# Altium integrated library Capacitor - Ceramic - Sumsung.IntLib: 1421 symbols (part 7 of 22)
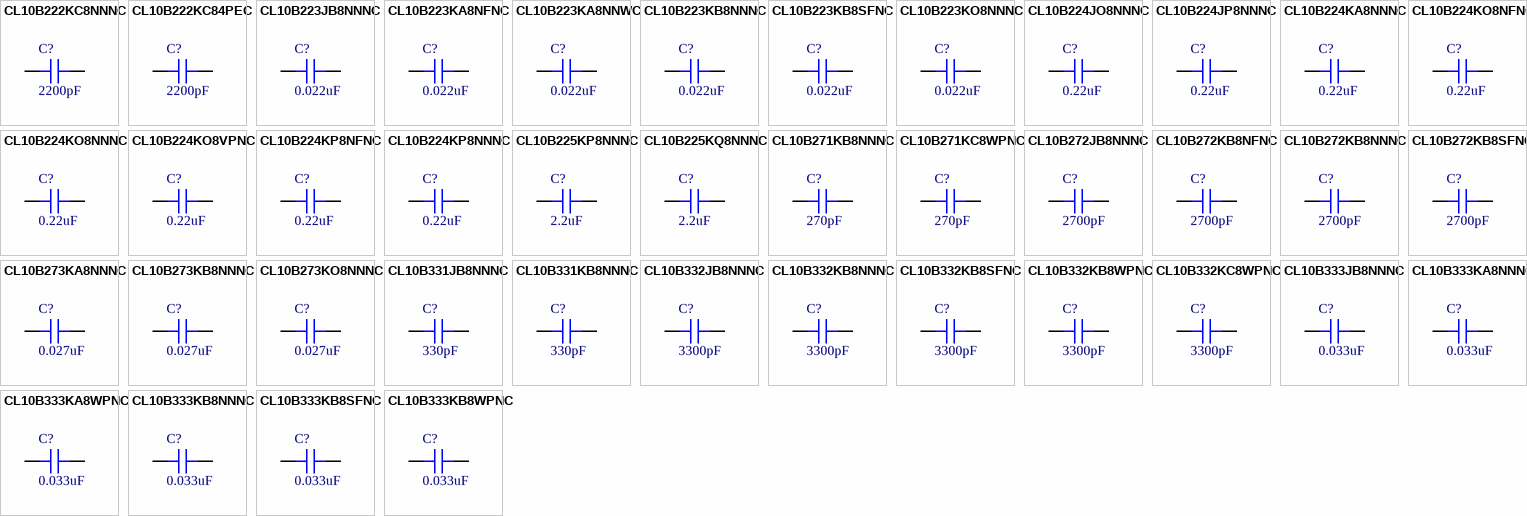
[diagram p41: symbols CL10B222KC8NNNC to CL10B333KB8WPNC]

## CL10B332KC8WPNC
designator C?, comment 3300pF
CAP CER 3300PF 100V X7R 0603; Part Number: CL10B332KC8WPNC; Manufacturer: Samsung Electro-Mechanics; TemperatureRange: -55C ~ 125C; Tolerance: 10%; Value: 3300pF; PartId: 30716; Supplier 1: Digi-Key; Supplier Part Number 1: 1276-6679-2-ND; ComponentLink1Description: Datasheet; ComponentLink1URL: http://www.samsungsem.com/kr/support/product-search/mlcc/CL10B332KC8WPNC.jsp; ComponentLink2Description: Digi-Key Listing; ComponentLink2URL: https://www.digikey.com/product-detail/en/samsung-electro-mechanics/CL10B332KC8WPNC/1276-6679-2-ND/5961163; TemperatureCoefficient: X7R; Voltage: 100V; Price: 0; Device Package: 0603 (1608 Metric)
footprint CAP 0603/1608
pins: 1, 2

## CL10B333JB8NNNC
designator C?, comment 0.033uF
CAP CER 0.033UF 50V X7R 0603; Part Number: CL10B333JB8NNNC; Manufacturer: Samsung Electro-Mechanics America, Inc.; TemperatureRange: -55C ~ 125C; Tolerance: 5%; Value: 0.033uF; PartId: 5608; Supplier 1: Digi-Key; Supplier Part Number 1: 1276-2037-2-ND; ComponentLink1Description: Datasheet; ComponentLink1URL: http://www.samsungsem.com/kr/support/product-search/mlcc/CL10B333JB8NNNC.jsp; ComponentLink2Description: Digi-Key listing; ComponentLink2URL: http://digikey.com/product-detail/en/CL10B333JB8NNNC/1276-2037-2-ND/3887695; TemperatureCoefficient: X7R; Voltage: 50V; Price: 0.034; Type: -; Device Package: 0603 (1608 Metric)
footprint CAP 0603/1608
pins: 1, 2

## CL10B333KA8NNNC
designator C?, comment 0.033uF
CAP CER 0.033UF 25V X7R 0603; Part Number: CL10B333KA8NNNC; Manufacturer: Samsung Electro-Mechanics America, Inc.; TemperatureRange: -55C ~ 125C; Tolerance: 10%; Value: 0.033uF; PartId: 5320; Supplier 1: Digi-Key; Supplier Part Number 1: 1276-2038-2-ND; ComponentLink1Description: Datasheet; ComponentLink1URL: http://www.samsungsem.com/kr/support/product-search/mlcc/CL10B333KA8NNNC.jsp; ComponentLink2Description: Digi-Key listing; ComponentLink2URL: http://digikey.com/product-detail/en/CL10B333KA8NNNC/1276-2038-2-ND/3887696; TemperatureCoefficient: X7R; Voltage: 25V; Price: 0.0085; Type: -; Device Package: 0603 (1608 Metric)
footprint CAP 0603/1608
pins: 1, 2

## CL10B333KA8WPNC
designator C?, comment 0.033uF
CAP CER 0.033UF 25V X7R 0603; Part Number: CL10B333KA8WPNC; Manufacturer: Samsung Electro-Mechanics; TemperatureRange: -55C ~ 125C; Tolerance: 10%; Value: 0.033uF; PartId: 30390; Supplier 1: Digi-Key; Supplier Part Number 1: 1276-6675-2-ND; ComponentLink1Description: Datasheet; ComponentLink1URL: http://www.samsungsem.com/kr/support/product-search/mlcc/CL10B333KA8WPNC.jsp; ComponentLink2Description: Digi-Key Listing; ComponentLink2URL: https://www.digikey.com/product-detail/en/samsung-electro-mechanics/CL10B333KA8WPNC/1276-6675-2-ND/5961159; TemperatureCoefficient: X7R; Voltage: 25V; Price: 0; Device Package: 0603 (1608 Metric)
footprint CAP 0603/1608
pins: 1, 2

## CL10B333KB8NNNC
designator C?, comment 0.033uF
CAP CER 0.033UF 50V X7R 0603; Part Number: CL10B333KB8NNNC; Manufacturer: Samsung Electro-Mechanics America, Inc.; TemperatureRange: -55C ~ 125C; Tolerance: 10%; Value: 0.033uF; PartId: 13516; Supplier 1: Digi-Key; Supplier Part Number 1: 1276-2041-2-ND; ComponentLink1Description: Datasheet; ComponentLink1URL: http://www.samsungsem.com/kr/support/product-search/mlcc/CL10B333KB8NNNC.jsp; ComponentLink2Description: Digi-Key Listing; ComponentLink2URL: https://www.digikey.com/product-detail/en/samsung-electro-mechanics-america-inc/CL10B333KB8NNNC/1276-2041-2-ND/3887699; TemperatureCoefficient: X7R; Voltage: 50V; Price: 0.0059; Device Package: 0603 (1608 Metric)
footprint CAP 0603/1608
pins: 1, 2

## CL10B333KB8SFNC
designator C?, comment 0.033uF
CAP CER 0.033UF 50V X7R 0603; Part Number: CL10B333KB8SFNC; Manufacturer: Samsung Electro-Mechanics America, Inc.; TemperatureRange: -55C ~ 125C; Tolerance: 10%; Value: 0.033uF; PartId: 13134; Supplier 1: Digi-Key; Supplier Part Number 1: 1276-2042-2-ND; ComponentLink1Description: Datasheet; ComponentLink1URL: http://www.samsungsem.com/kr/support/product-search/mlcc/CL10B333KB8SFNC.jsp; ComponentLink2Description: Digi-Key Listing; ComponentLink2URL: https://www.digikey.com/product-detail/en/samsung-electro-mechanics-america-inc/CL10B333KB8SFNC/1276-2042-2-ND/3887700; TemperatureCoefficient: X7R; Voltage: 50V; Price: 0.0059; Device Package: 0603 (1608 Metric)
footprint CAP 0603/1608
pins: 1, 2

## CL10B333KB8WPNC
designator C?, comment 0.033uF
CAP CER 0.033UF 50V X7R 0603; Part Number: CL10B333KB8WPNC; Manufacturer: Samsung Electro-Mechanics; TemperatureRange: -55C ~ 125C; Tolerance: 10%; Value: 0.033uF; PartId: 30244; Supplier 1: Digi-Key; Supplier Part Number 1: 1276-6842-2-ND; ComponentLink1Description: Datasheet; ComponentLink1URL: http://www.samsungsem.com/kr/support/product-search/mlcc/CL10B333KB8WPNC.jsp; ComponentLink2Description: Digi-Key Listing; ComponentLink2URL: https://www.digikey.com/product-detail/en/samsung-electro-mechanics/CL10B333KB8WPNC/1276-6842-2-ND/5961326; TemperatureCoefficient: X7R; Voltage: 50V; Price: 0; Device Package: 0603 (1608 Metric)
footprint CAP 0603/1608
pins: 1, 2

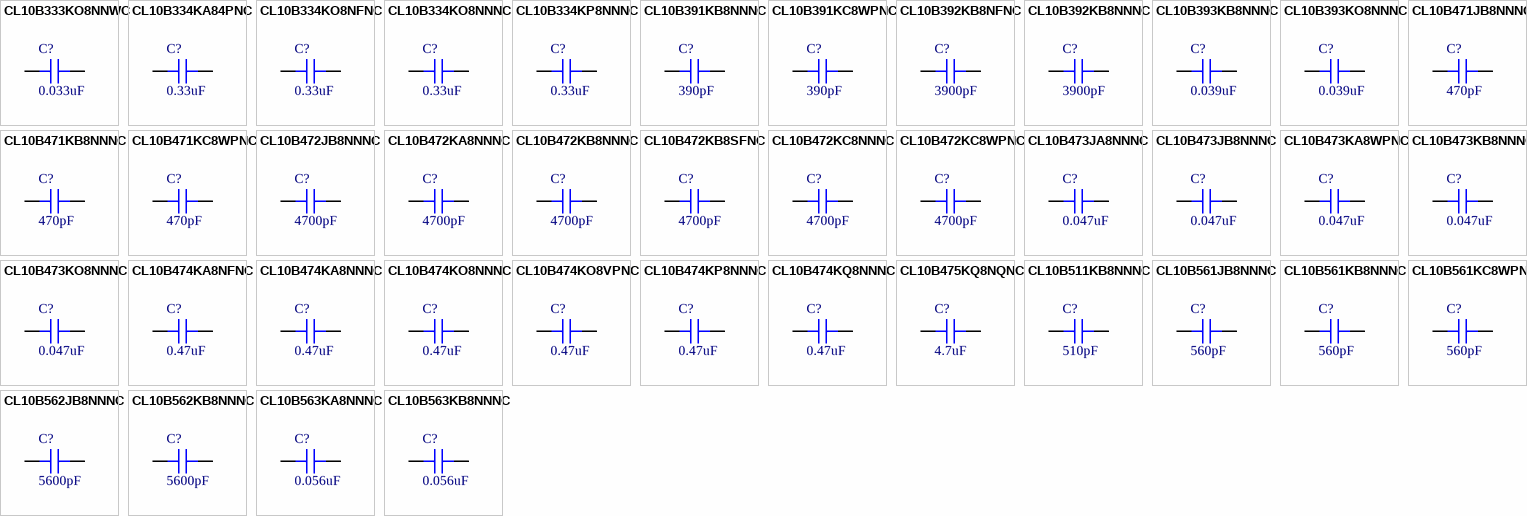
[diagram p10: symbols CL10B333KO8NNWC to CL10B563KB8NNNC]

## CL10B333KO8NNWC
designator C?, comment 0.033uF
CAP CER 0.033UF 16V X7R 0603; Part Number: CL10B333KO8NNWC; Manufacturer: Samsung Electro-Mechanics America, Inc.; TemperatureRange: -55C ~ 125C; Tolerance: 10%; Value: 0.033uF; PartId: 5322; Supplier 1: Digi-Key; Supplier Part Number 1: 1276-2045-2-ND; ComponentLink1Description: Datasheet; ComponentLink1URL: http://www.samsungsem.com/kr/support/product-search/mlcc/CL10B333KO8NNWC.jsp; ComponentLink2Description: Digi-Key listing; ComponentLink2URL: http://digikey.com/product-detail/en/CL10B333KO8NNWC/1276-2045-2-ND/3887703; TemperatureCoefficient: X7R; Voltage: 16V; Price: 0.0085; Type: -; Device Package: 0603 (1608 Metric)
footprint CAP 0603/1608
pins: 1, 2

## CL10B334KA84PNC
designator C?, comment 0.33uF
CAP CER 0.33UF 25V X7R 0603; Part Number: CL10B334KA84PNC; Manufacturer: Samsung Electro-Mechanics America, Inc.; TemperatureRange: -55C ~ 125C; Tolerance: 10%; Value: 0.33uF; PartId: 13269; Supplier 1: Digi-Key; Supplier Part Number 1: 1276-2046-2-ND; ComponentLink1Description: Datasheet; ComponentLink1URL: http://www.samsungsem.com/kr/front/downloadcms.do?path=/kr/support/product-search/mlcc/__icsFiles/afieldfile/2014/11/05&fileName=C_CL10B334KA84PNC.pdf; ComponentLink2Description: Digi-Key Listing; ComponentLink2URL: https://www.digikey.com/product-detail/en/samsung-electro-mechanics-america-inc/CL10B334KA84PNC/1276-2046-2-ND/3887704; TemperatureCoefficient: X7R; Voltage: 25V; Price: 0.0188; Device Package: 0603 (1608 Metric)
footprint CAP 0603/1608
pins: 1, 2

## CL10B334KO8NFNC
designator C?, comment 0.33uF
CAP CER 0.33UF 16V X7R 0603; Part Number: CL10B334KO8NFNC; Manufacturer: Samsung Electro-Mechanics; TemperatureRange: -55C ~ 125C; Tolerance: 10%; Value: 0.33uF; PartId: 30552; Supplier 1: Digi-Key; Supplier Part Number 1: 1276-2047-2-ND; ComponentLink1Description: Datasheet; ComponentLink1URL: http://www.samsungsem.com/kr/support/product-search/mlcc/CL10B334KO8NFNC.jsp; ComponentLink2Description: Digi-Key Listing; ComponentLink2URL: https://www.digikey.com/product-detail/en/samsung-electro-mechanics/CL10B334KO8NFNC/1276-2047-2-ND/3887705; TemperatureCoefficient: X7R; Voltage: 16V; Price: 0; Device Package: 0603 (1608 Metric)
footprint CAP 0603/1608
pins: 1, 2

## CL10B334KO8NNNC
designator C?, comment 0.33uF
CAP CER 0.33UF 16V X7R 0603; Part Number: CL10B334KO8NNNC; Manufacturer: Samsung Electro-Mechanics; TemperatureRange: -55C ~ 125C; Tolerance: 10%; Value: 0.33uF; PartId: 30550; Supplier 1: Digi-Key; Supplier Part Number 1: 1276-2048-2-ND; ComponentLink1Description: Datasheet; ComponentLink1URL: http://www.samsungsem.com/kr/support/product-search/mlcc/CL10B334KO8NNNC.jsp; ComponentLink2Description: Digi-Key Listing; ComponentLink2URL: https://www.digikey.com/product-detail/en/samsung-electro-mechanics/CL10B334KO8NNNC/1276-2048-2-ND/3887706; TemperatureCoefficient: X7R; Voltage: 16V; Price: 0; Device Package: 0603 (1608 Metric)
footprint CAP 0603/1608
pins: 1, 2

## CL10B334KP8NNNC
designator C?, comment 0.33uF
CAP CER 0.33UF 10V X7R 0603; Part Number: CL10B334KP8NNNC; Manufacturer: Samsung Electro-Mechanics America, Inc.; TemperatureRange: -55C ~ 125C; Tolerance: 10%; Value: 0.33uF; PartId: 5544; Supplier 1: Digi-Key; Supplier Part Number 1: 1276-1813-2-ND; ComponentLink1Description: Datasheet; ComponentLink1URL: http://www.samsungsem.com/kr/support/product-search/mlcc/CL10B334KP8NNNC.jsp; ComponentLink2Description: Digi-Key listing; ComponentLink2URL: http://digikey.com/product-detail/en/CL10B334KP8NNNC/1276-1813-2-ND/3887471; TemperatureCoefficient: X7R; Voltage: 10V; Price: 0.0247; Type: -; Device Package: 0603 (1608 Metric)
footprint CAP 0603/1608
pins: 1, 2

## CL10B391KB8NNNC
designator C?, comment 390pF
CAP CER 390PF 50V X7R 0603; Part Number: CL10B391KB8NNNC; Manufacturer: Samsung Electro-Mechanics; TemperatureRange: -55C ~ 125C; Tolerance: 10%; Value: 390pF; PartId: 30218; Supplier 1: Digi-Key; Supplier Part Number 1: 1276-2049-2-ND; ComponentLink1Description: Datasheet; ComponentLink1URL: http://www.samsungsem.com/kr/support/product-search/mlcc/CL10B391KB8NNNC.jsp; ComponentLink2Description: Digi-Key Listing; ComponentLink2URL: https://www.digikey.com/product-detail/en/samsung-electro-mechanics/CL10B391KB8NNNC/1276-2049-2-ND/3887707; TemperatureCoefficient: X7R; Voltage: 50V; Price: 0; Device Package: 0603 (1608 Metric)
footprint CAP 0603/1608
pins: 1, 2

## CL10B391KC8WPNC
designator C?, comment 390pF
CAP CER 390PF 100V X7R 0603; Part Number: CL10B391KC8WPNC; Manufacturer: Samsung Electro-Mechanics; TemperatureRange: -55C ~ 125C; Tolerance: 10%; Value: 390pF; PartId: 30308; Supplier 1: Digi-Key; Supplier Part Number 1: 1276-6508-2-ND; ComponentLink1Description: Datasheet; ComponentLink1URL: http://www.samsungsem.com/kr/support/product-search/mlcc/CL10B391KC8WPNC.jsp; ComponentLink2Description: Digi-Key Listing; ComponentLink2URL: https://www.digikey.com/product-detail/en/samsung-electro-mechanics/CL10B391KC8WPNC/1276-6508-2-ND/5960992; TemperatureCoefficient: X7R; Voltage: 100V; Price: 0; Device Package: 0603 (1608 Metric)
footprint CAP 0603/1608
pins: 1, 2

## CL10B392KB8NFNC
designator C?, comment 3900pF
CAP CER 3900PF 50V X7R 0603; Part Number: CL10B392KB8NFNC; Manufacturer: Samsung Electro-Mechanics; TemperatureRange: -55C ~ 125C; Tolerance: 10%; Value: 3900pF; PartId: 30405; Supplier 1: Digi-Key; Supplier Part Number 1: 1276-2050-2-ND; ComponentLink1Description: Datasheet; ComponentLink1URL: http://www.samsungsem.com/kr/support/product-search/mlcc/CL10B392KB8NFNC.jsp; ComponentLink2Description: Digi-Key Listing; ComponentLink2URL: https://www.digikey.com/product-detail/en/samsung-electro-mechanics/CL10B392KB8NFNC/1276-2050-2-ND/3887708; TemperatureCoefficient: X7R; Voltage: 50V; Price: 0; Device Package: 0603 (1608 Metric)
footprint CAP 0603/1608
pins: 1, 2

## CL10B392KB8NNNC
designator C?, comment 3900pF
CAP CER 3900PF 50V X7R 0603; Part Number: CL10B392KB8NNNC; Manufacturer: Samsung Electro-Mechanics America, Inc.; TemperatureRange: -55C ~ 125C; Tolerance: 10%; Value: 3900pF; PartId: 5355; Supplier 1: Digi-Key; Supplier Part Number 1: 1276-2051-2-ND; ComponentLink1Description: Datasheet; ComponentLink1URL: http://www.samsungsem.com/kr/support/product-search/mlcc/CL10B392KB8NNNC.jsp; ComponentLink2Description: Digi-Key listing; ComponentLink2URL: http://digikey.com/product-detail/en/CL10B392KB8NNNC/1276-2051-2-ND/3887709; TemperatureCoefficient: X7R; Voltage: 50V; Price: 0.0097; Type: -; Device Package: 0603 (1608 Metric)
footprint CAP 0603/1608
pins: 1, 2

## CL10B393KB8NNNC
designator C?, comment 0.039uF
CAP CER 0.039UF 50V X7R 0603; Part Number: CL10B393KB8NNNC; Manufacturer: Samsung Electro-Mechanics America, Inc.; TemperatureRange: -55C ~ 125C; Tolerance: 10%; Value: 0.039uF; PartId: 5526; Supplier 1: Digi-Key; Supplier Part Number 1: 1276-2055-2-ND; ComponentLink1Description: Datasheet; ComponentLink1URL: http://www.samsungsem.com/kr/support/product-search/mlcc/CL10B393KB8NNNC.jsp; ComponentLink2Description: Digi-Key listing; ComponentLink2URL: http://digikey.com/product-detail/en/CL10B393KB8NNNC/1276-2055-2-ND/3887713; TemperatureCoefficient: X7R; Voltage: 50V; Price: 0.0235; Type: -; Device Package: 0603 (1608 Metric)
footprint CAP 0603/1608
pins: 1, 2

## CL10B393KO8NNNC
designator C?, comment 0.039uF
CAP CER 0.039UF 16V X7R 0603; Part Number: CL10B393KO8NNNC; Manufacturer: Samsung Electro-Mechanics America, Inc.; TemperatureRange: -55C ~ 125C; Tolerance: 10%; Value: 0.039uF; PartId: 5445; Supplier 1: Digi-Key; Supplier Part Number 1: 1276-2057-2-ND; ComponentLink1Description: Datasheet; ComponentLink1URL: http://www.samsungsem.com/kr/support/product-search/mlcc/CL10B393KO8NNNC.jsp; ComponentLink2Description: Digi-Key listing; ComponentLink2URL: http://digikey.com/product-detail/en/CL10B393KO8NNNC/1276-2057-2-ND/3887715; TemperatureCoefficient: X7R; Voltage: 16V; Price: 0.0149; Type: -; Device Package: 0603 (1608 Metric)
footprint CAP 0603/1608
pins: 1, 2

## CL10B471JB8NNNC
designator C?, comment 470pF
CAP CER 470PF 50V X7R 0603; Part Number: CL10B471JB8NNNC; Manufacturer: Samsung Electro-Mechanics America, Inc.; TemperatureRange: -55C ~ 125C; Tolerance: 5%; Value: 470pF; PartId: 5466; Supplier 1: Digi-Key; Supplier Part Number 1: 1276-2058-2-ND; ComponentLink1Description: Datasheet; ComponentLink1URL: http://www.samsungsem.com/kr/support/product-search/mlcc/CL10B471JB8NNNC.jsp; ComponentLink2Description: Digi-Key listing; ComponentLink2URL: http://digikey.com/product-detail/en/CL10B471JB8NNNC/1276-2058-2-ND/3887716; TemperatureCoefficient: X7R; Voltage: 50V; Price: 0.0163; Type: -; Device Package: 0603 (1608 Metric)
footprint CAP 0603/1608
pins: 1, 2

## CL10B471KB8NNNC
designator C?, comment 470pF
CAP CER 470PF 50V X7R 0603; Part Number: CL10B471KB8NNNC; Manufacturer: Samsung Electro-Mechanics America, Inc.; TemperatureRange: -55C ~ 125C; Tolerance: 10%; Value: 470pF; PartId: 5312; Supplier 1: Digi-Key; Supplier Part Number 1: 1276-1094-2-ND; ComponentLink1Description: Datasheet; ComponentLink1URL: http://www.samsungsem.com/kr/support/product-search/mlcc/CL10B471KB8NNNC.jsp; ComponentLink2Description: Digi-Key listing; ComponentLink2URL: http://digikey.com/product-detail/en/CL10B471KB8NNNC/1276-1094-2-ND/3886752; TemperatureCoefficient: X7R; Voltage: 50V; Price: 0.0081; Type: -; Device Package: 0603 (1608 Metric)
footprint CAP 0603/1608
pins: 1, 2

## CL10B471KC8WPNC
designator C?, comment 470pF
CAP CER 470PF 100V X7R 0603; Part Number: CL10B471KC8WPNC; Manufacturer: Samsung Electro-Mechanics; TemperatureRange: -55C ~ 125C; Tolerance: 10%; Value: 470pF; PartId: 30786; Supplier 1: Digi-Key; Supplier Part Number 1: 1276-6700-2-ND; ComponentLink1Description: Datasheet; ComponentLink1URL: http://www.samsungsem.com/kr/support/product-search/mlcc/CL10B471KC8WPNC.jsp; ComponentLink2Description: Digi-Key Listing; ComponentLink2URL: https://www.digikey.com/product-detail/en/samsung-electro-mechanics/CL10B471KC8WPNC/1276-6700-2-ND/5961184; TemperatureCoefficient: X7R; Voltage: 100V; Price: 0; Device Package: 0603 (1608 Metric)
footprint CAP 0603/1608
pins: 1, 2

## CL10B472JB8NNNC
designator C?, comment 4700pF
CAP CER 4700PF 50V X7R 0603; Part Number: CL10B472JB8NNNC; Manufacturer: Samsung Electro-Mechanics America, Inc.; TemperatureRange: -55C ~ 125C; Tolerance: 5%; Value: 4700pF; PartId: 5358; Supplier 1: Digi-Key; Supplier Part Number 1: 1276-2061-2-ND; ComponentLink1Description: Datasheet; ComponentLink1URL: http://www.samsungsem.com/kr/support/product-search/mlcc/CL10B472JB8NNNC.jsp; ComponentLink2Description: Digi-Key listing; ComponentLink2URL: http://digikey.com/product-detail/en/CL10B472JB8NNNC/1276-2061-2-ND/3887719; TemperatureCoefficient: X7R; Voltage: 50V; Price: 0.0099; Type: -; Device Package: 0603 (1608 Metric)
footprint CAP 0603/1608
pins: 1, 2

## CL10B472KA8NNNC
designator C?, comment 4700pF
CAP CER 4700PF 25V X7R 0603; Part Number: CL10B472KA8NNNC; Manufacturer: Samsung Electro-Mechanics America, Inc.; TemperatureRange: -55C ~ 125C; Tolerance: 10%; Value: 4700pF; PartId: 5281; Supplier 1: Digi-Key; Supplier Part Number 1: 1276-2062-2-ND; ComponentLink1Description: Datasheet; ComponentLink1URL: http://www.samsungsem.com/kr/support/product-search/mlcc/CL10B472KA8NNNC.jsp; ComponentLink2Description: Digi-Key listing; ComponentLink2URL: http://digikey.com/product-detail/en/CL10B472KA8NNNC/1276-2062-2-ND/3887720; TemperatureCoefficient: X7R; Voltage: 25V; Price: 0.0067; Type: -; Device Package: 0603 (1608 Metric)
footprint CAP 0603/1608
pins: 1, 2

## CL10B472KB8NNNC
designator C?, comment 4700pF
CAP CER 4700PF 50V X7R 0603; Part Number: CL10B472KB8NNNC; Manufacturer: Samsung Electro-Mechanics America, Inc.; TemperatureRange: -55C ~ 125C; Tolerance: 10%; Value: 4700pF; PartId: 5280; Supplier 1: Digi-Key; Supplier Part Number 1: 1276-1098-2-ND; ComponentLink1Description: Datasheet; ComponentLink1URL: http://www.samsungsem.com/kr/support/product-search/mlcc/CL10B472KB8NNNC.jsp; ComponentLink2Description: Digi-Key listing; ComponentLink2URL: http://digikey.com/product-detail/en/CL10B472KB8NNNC/1276-1098-2-ND/3886756; TemperatureCoefficient: X7R; Voltage: 50V; Price: 0.0067; Type: -; Device Package: 0603 (1608 Metric)
footprint CAP 0603/1608
pins: 1, 2

## CL10B472KB8SFNC
designator C?, comment 4700pF
CAP CER 4700PF 50V X7R 0603; Part Number: CL10B472KB8SFNC; Manufacturer: Samsung Electro-Mechanics America, Inc.; TemperatureRange: -55C ~ 125C; Tolerance: 10%; Value: 4700pF; PartId: 13207; Supplier 1: Digi-Key; Supplier Part Number 1: 1276-2066-2-ND; ComponentLink1Description: Datasheet; ComponentLink1URL: http://www.samsungsem.com/kr/support/product-search/mlcc/CL10B472KB8SFNC.jsp; ComponentLink2Description: Digi-Key Listing; ComponentLink2URL: https://www.digikey.com/product-detail/en/samsung-electro-mechanics-america-inc/CL10B472KB8SFNC/1276-2066-2-ND/3887724; TemperatureCoefficient: X7R; Voltage: 50V; Price: 0.0047; Device Package: 0603 (1608 Metric)
footprint CAP 0603/1608
pins: 1, 2

## CL10B472KC8NNNC
designator C?, comment 4700pF
CAP CER 4700PF 100V X7R 0603; Part Number: CL10B472KC8NNNC; Manufacturer: Samsung Electro-Mechanics; TemperatureRange: -55C ~ 125C; Tolerance: 10%; Value: 4700pF; PartId: 30320; Supplier 1: Digi-Key; Supplier Part Number 1: 1276-2068-2-ND; ComponentLink1Description: Datasheet; ComponentLink1URL: http://www.samsungsem.com/kr/support/product-search/mlcc/CL10B472KC8NNNC.jsp; ComponentLink2Description: Digi-Key Listing; ComponentLink2URL: https://www.digikey.com/product-detail/en/samsung-electro-mechanics/CL10B472KC8NNNC/1276-2068-2-ND/3887726; TemperatureCoefficient: X7R; Voltage: 100V; Price: 0; Device Package: 0603 (1608 Metric)
footprint CAP 0603/1608
pins: 1, 2

## CL10B472KC8WPNC
designator C?, comment 4700pF
CAP CER 4700PF 100V X7R 0603; Part Number: CL10B472KC8WPNC; Manufacturer: Samsung Electro-Mechanics; TemperatureRange: -55C ~ 125C; Tolerance: 10%; Value: 4700pF; PartId: 30358; Supplier 1: Digi-Key; Supplier Part Number 1: 1276-6584-2-ND; ComponentLink1Description: Datasheet; ComponentLink1URL: http://www.samsungsem.com/kr/support/product-search/mlcc/CL10B472KC8WPNC.jsp; ComponentLink2Description: Digi-Key Listing; ComponentLink2URL: https://www.digikey.com/product-detail/en/samsung-electro-mechanics/CL10B472KC8WPNC/1276-6584-2-ND/5961068; TemperatureCoefficient: X7R; Voltage: 100V; Price: 0; Device Package: 0603 (1608 Metric)
footprint CAP 0603/1608
pins: 1, 2

## CL10B473JA8NNNC
designator C?, comment 0.047uF
CAP CER 0.047UF 25V X7R 0603; Part Number: CL10B473JA8NNNC; Manufacturer: Samsung Electro-Mechanics America, Inc.; TemperatureRange: -55C ~ 125C; Tolerance: 5%; Value: 0.047uF; PartId: 5522; Supplier 1: Digi-Key; Supplier Part Number 1: 1276-2069-2-ND; ComponentLink1Description: Datasheet; ComponentLink1URL: http://www.samsungsem.com/kr/support/product-search/mlcc/CL10B473JA8NNNC.jsp; ComponentLink2Description: Digi-Key listing; ComponentLink2URL: http://digikey.com/product-detail/en/CL10B473JA8NNNC/1276-2069-2-ND/3887727; TemperatureCoefficient: X7R; Voltage: 25V; Price: 0.0231; Type: -; Device Package: 0603 (1608 Metric)
footprint CAP 0603/1608
pins: 1, 2

## CL10B473JB8NNNC
designator C?, comment 0.047uF
CAP CER 0.047UF 50V X7R 0603; Part Number: CL10B473JB8NNNC; Manufacturer: Samsung Electro-Mechanics America, Inc.; TemperatureRange: -55C ~ 125C; Tolerance: 5%; Value: 0.047uF; PartId: 5627; Supplier 1: Digi-Key; Supplier Part Number 1: 1276-2070-2-ND; ComponentLink1Description: Datasheet; ComponentLink1URL: http://www.samsungsem.com/kr/support/product-search/mlcc/CL10B473JB8NNNC.jsp; ComponentLink2Description: Digi-Key listing; ComponentLink2URL: http://digikey.com/product-detail/en/CL10B473JB8NNNC/1276-2070-2-ND/3887728; TemperatureCoefficient: X7R; Voltage: 50V; Price: 0.0381; Type: -; Device Package: 0603 (1608 Metric)
footprint CAP 0603/1608
pins: 1, 2

## CL10B473KA8WPNC
designator C?, comment 0.047uF
CAP CER 0.047UF 25V X7R 0603; Part Number: CL10B473KA8WPNC; Manufacturer: Samsung Electro-Mechanics; TemperatureRange: -55C ~ 125C; Tolerance: 10%; Value: 0.047uF; PartId: 30376; Supplier 1: Digi-Key; Supplier Part Number 1: 1276-6619-2-ND; ComponentLink1Description: Datasheet; ComponentLink1URL: http://www.samsungsem.com/kr/support/product-search/mlcc/CL10B473KA8WPNC.jsp; ComponentLink2Description: Digi-Key Listing; ComponentLink2URL: https://www.digikey.com/product-detail/en/samsung-electro-mechanics/CL10B473KA8WPNC/1276-6619-2-ND/5961103; TemperatureCoefficient: X7R; Voltage: 25V; Price: 0; Device Package: 0603 (1608 Metric)
footprint CAP 0603/1608
pins: 1, 2

## CL10B473KB8NNNC
designator C?, comment 0.047uF
CAP CER 0.047UF 50V X7R 0603; Part Number: CL10B473KB8NNNC; Manufacturer: Samsung Electro-Mechanics America, Inc.; TemperatureRange: -55C ~ 125C; Tolerance: 10%; Value: 0.047uF; PartId: 13047; Supplier 1: Digi-Key; Supplier Part Number 1: 1276-1063-2-ND; ComponentLink1Description: Datasheet; ComponentLink1URL: http://www.samsungsem.com/kr/support/product-search/mlcc/CL10B473KB8NNNC.jsp; ComponentLink2Description: Digi-Key Listing; ComponentLink2URL: https://www.digikey.com/product-detail/en/samsung-electro-mechanics-america-inc/CL10B473KB8NNNC/1276-1063-2-ND/3886721; TemperatureCoefficient: X7R; Voltage: 50V; Price: 0.0059; Device Package: 0603 (1608 Metric)
footprint CAP 0603/1608
pins: 1, 2

## CL10B473KO8NNNC
designator C?, comment 0.047uF
CAP CER 0.047UF 16V X7R 0603; Part Number: CL10B473KO8NNNC; Manufacturer: Samsung Electro-Mechanics America, Inc.; TemperatureRange: -55C ~ 125C; Tolerance: 10%; Value: 0.047uF; PartId: 5323; Supplier 1: Digi-Key; Supplier Part Number 1: 1276-2079-2-ND; ComponentLink1Description: Datasheet; ComponentLink1URL: http://www.samsungsem.com/kr/support/product-search/mlcc/CL10B473KO8NNNC.jsp; ComponentLink2Description: Digi-Key listing; ComponentLink2URL: http://digikey.com/product-detail/en/CL10B473KO8NNNC/1276-2079-2-ND/3887737; TemperatureCoefficient: X7R; Voltage: 16V; Price: 0.0085; Type: -; Device Package: 0603 (1608 Metric)
footprint CAP 0603/1608
pins: 1, 2

## CL10B474KA8NFNC
designator C?, comment 0.47uF
CAP CER 0.47UF 25V X7R 0603; Part Number: CL10B474KA8NFNC; Manufacturer: Samsung Electro-Mechanics America, Inc.; TemperatureRange: -55C ~ 125C; Tolerance: 10%; Value: 0.47uF; PartId: 13372; Supplier 1: Digi-Key; Supplier Part Number 1: 1276-2082-2-ND; ComponentLink1Description: Datasheet; ComponentLink1URL: http://www.samsungsem.com/kr/support/product-search/mlcc/CL10B474KA8NFNC.jsp; ComponentLink2Description: Digi-Key Listing; ComponentLink2URL: https://www.digikey.com/product-detail/en/samsung-electro-mechanics-america-inc/CL10B474KA8NFNC/1276-2082-2-ND/3887740; TemperatureCoefficient: X7R; Voltage: 25V; Price: 0.0138; Device Package: 0603 (1608 Metric)
footprint CAP 0603/1608
pins: 1, 2

## CL10B474KA8NNNC
designator C?, comment 0.47uF
CAP CER 0.47UF 25V X7R 0603; Part Number: CL10B474KA8NNNC; Manufacturer: Samsung Electro-Mechanics; TemperatureRange: -55C ~ 125C; Tolerance: 10%; Value: 0.47uF; PartId: 30594; Supplier 1: Digi-Key; Supplier Part Number 1: 1276-2083-2-ND; ComponentLink1Description: Datasheet; ComponentLink1URL: http://www.samsungsem.com/kr/support/product-search/mlcc/CL10B474KA8NNNC.jsp; ComponentLink2Description: Digi-Key Listing; ComponentLink2URL: https://www.digikey.com/product-detail/en/samsung-electro-mechanics/CL10B474KA8NNNC/1276-2083-2-ND/3887741; TemperatureCoefficient: X7R; Voltage: 25V; Price: 0; Device Package: 0603 (1608 Metric)
footprint CAP 0603/1608
pins: 1, 2

## CL10B474KO8NNNC
designator C?, comment 0.47uF
CAP CER 0.47UF 16V X7R 0603; Part Number: CL10B474KO8NNNC; Manufacturer: Samsung Electro-Mechanics America, Inc.; TemperatureRange: -55C ~ 125C; Tolerance: 10%; Value: 0.47uF; PartId: 13164; Supplier 1: Digi-Key; Supplier Part Number 1: 1276-1062-2-ND; ComponentLink1Description: Datasheet; ComponentLink1URL: http://www.samsungsem.com/kr/support/product-search/mlcc/CL10B474KO8NNNC.jsp; ComponentLink2Description: Digi-Key Listing; ComponentLink2URL: https://www.digikey.com/product-detail/en/samsung-electro-mechanics-america-inc/CL10B474KO8NNNC/1276-1062-2-ND/3886720; TemperatureCoefficient: X7R; Voltage: 16V; Price: 0.0126; Device Package: 0603 (1608 Metric)
footprint CAP 0603/1608
pins: 1, 2

## CL10B474KO8VPNC
designator C?, comment 0.47uF
CAP CER 0.47UF 16V X7R 0603; Part Number: CL10B474KO8VPNC; Manufacturer: Samsung Electro-Mechanics; TemperatureRange: -55C ~ 125C; Tolerance: 10%; Value: 0.47uF; PartId: 30486; Supplier 1: Digi-Key; Supplier Part Number 1: 1276-6604-2-ND; ComponentLink1Description: Datasheet; ComponentLink1URL: http://www.samsungsem.com/kr/support/product-search/mlcc/CL10B474KO8VPNC.jsp; ComponentLink2Description: Digi-Key Listing; ComponentLink2URL: https://www.digikey.com/product-detail/en/samsung-electro-mechanics/CL10B474KO8VPNC/1276-6604-2-ND/5961088; TemperatureCoefficient: X7R; Voltage: 16V; Price: 0; Device Package: 0603 (1608 Metric)
footprint CAP 0603/1608
pins: 1, 2

## CL10B474KP8NNNC
designator C?, comment 0.47uF
CAP CER 0.47UF 10V X7R 0603; Part Number: CL10B474KP8NNNC; Manufacturer: Samsung Electro-Mechanics America, Inc.; TemperatureRange: -55C ~ 125C; Tolerance: 10%; Value: 0.47uF; PartId: 5479; Supplier 1: Digi-Key; Supplier Part Number 1: 1276-1247-2-ND; ComponentLink1Description: Datasheet; ComponentLink1URL: http://www.samsungsem.com/kr/support/product-search/mlcc/CL10B474KP8NNNC.jsp; ComponentLink2Description: Digi-Key listing; ComponentLink2URL: http://digikey.com/product-detail/en/CL10B474KP8NNNC/1276-1247-2-ND/3886905; TemperatureCoefficient: X7R; Voltage: 10V; Price: 0.0182; Type: -; Device Package: 0603 (1608 Metric)
footprint CAP 0603/1608
pins: 1, 2

## CL10B474KQ8NNNC
designator C?, comment 0.47uF
CAP CER 0.47UF 6.3V X7R 0603; Part Number: CL10B474KQ8NNNC; Manufacturer: Samsung Electro-Mechanics America, Inc.; TemperatureRange: -55C ~ 125C; Tolerance: 10%; Value: 0.47uF; PartId: 5480; Supplier 1: Digi-Key; Supplier Part Number 1: 1276-2086-2-ND; ComponentLink1Description: Datasheet; ComponentLink1URL: http://www.samsungsem.com/kr/support/product-search/mlcc/CL10B474KQ8NNNC.jsp; ComponentLink2Description: Digi-Key listing; ComponentLink2URL: http://digikey.com/product-detail/en/CL10B474KQ8NNNC/1276-2086-2-ND/3887744; TemperatureCoefficient: X7R; Voltage: 6.3V; Price: 0.0182; Type: -; Device Package: 0603 (1608 Metric)
footprint CAP 0603/1608
pins: 1, 2

## CL10B475KQ8NQNC
designator C?, comment 4.7uF
CAP CER 4.7UF 6.3V X7R 0603; Part Number: CL10B475KQ8NQNC; Manufacturer: Samsung Electro-Mechanics America, Inc.; TemperatureRange: -55C ~ 125C; Tolerance: 10%; Value: 4.7uF; PartId: 5495; Supplier 1: Digi-Key; Supplier Part Number 1: 1276-2087-2-ND; ComponentLink1Description: Datasheet; ComponentLink1URL: http://media.digikey.com/pdf/Data%20Sheets/Samsung%20PDFs/CL10B475KQ8NQNC_Spec.pdf; ComponentLink2Description: Digi-Key listing; ComponentLink2URL: http://digikey.com/product-detail/en/CL10B475KQ8NQNC/1276-2087-2-ND/3887745; TemperatureCoefficient: X7R; Voltage: 6.3V; Price: 0.0204; Type: -; Device Package: 0603 (1608 Metric)
footprint CAP 0603/1608
pins: 1, 2

## CL10B511KB8NNNC
designator C?, comment 510pF
CAP CER 510PF 50V X7R 0603; Part Number: CL10B511KB8NNNC; Manufacturer: Samsung Electro-Mechanics America, Inc.; TemperatureRange: -55C ~ 125C; Tolerance: 10%; Value: 510pF; PartId: 5245; Supplier 1: Digi-Key; Supplier Part Number 1: 1276-2088-2-ND; ComponentLink1Description: Datasheet; ComponentLink1URL: http://www.samsungsem.com/kr/support/product-search/mlcc/CL10B511KB8NNNC.jsp; ComponentLink2Description: Digi-Key listing; ComponentLink2URL: http://digikey.com/product-detail/en/CL10B511KB8NNNC/1276-2088-2-ND/3887746; TemperatureCoefficient: X7R; Voltage: 50V; Price: 0.0032; Type: -; Device Package: 0603 (1608 Metric)
footprint CAP 0603/1608
pins: 1, 2

## CL10B561JB8NNNC
designator C?, comment 560pF
CAP CER 560PF 50V X7R 0603; Part Number: CL10B561JB8NNNC; Manufacturer: Samsung Electro-Mechanics America, Inc.; TemperatureRange: -55C ~ 125C; Tolerance: 5%; Value: 560pF; PartId: 5450; Supplier 1: Digi-Key; Supplier Part Number 1: 1276-1788-2-ND; ComponentLink1Description: Datasheet; ComponentLink1URL: http://www.samsungsem.com/kr/support/product-search/mlcc/CL10B561JB8NNNC.jsp; ComponentLink2Description: Digi-Key listing; ComponentLink2URL: http://digikey.com/product-detail/en/CL10B561JB8NNNC/1276-1788-2-ND/3887446; TemperatureCoefficient: X7R; Voltage: 50V; Price: 0.0153; Type: -; Device Package: 0603 (1608 Metric)
footprint CAP 0603/1608
pins: 1, 2

## CL10B561KB8NNNC
designator C?, comment 560pF
CAP CER 560PF 50V X7R 0603; Part Number: CL10B561KB8NNNC; Manufacturer: Samsung Electro-Mechanics America, Inc.; TemperatureRange: -55C ~ 125C; Tolerance: 10%; Value: 560pF; PartId: 5343; Supplier 1: Digi-Key; Supplier Part Number 1: 1276-1278-2-ND; ComponentLink1Description: Datasheet; ComponentLink1URL: http://www.samsungsem.com/kr/support/product-search/mlcc/CL10B561KB8NNNC.jsp; ComponentLink2Description: Digi-Key listing; ComponentLink2URL: http://digikey.com/product-detail/en/CL10B561KB8NNNC/1276-1278-2-ND/3886936; TemperatureCoefficient: X7R; Voltage: 50V; Price: 0.0097; Type: -; Device Package: 0603 (1608 Metric)
footprint CAP 0603/1608
pins: 1, 2

## CL10B561KC8WPNC
designator C?, comment 560pF
CAP CER 560PF 100V X7R 0603; Part Number: CL10B561KC8WPNC; Manufacturer: Samsung Electro-Mechanics; TemperatureRange: -55C ~ 125C; Tolerance: 10%; Value: 560pF; PartId: 30235; Supplier 1: Digi-Key; Supplier Part Number 1: 1276-6657-2-ND; ComponentLink1Description: Datasheet; ComponentLink1URL: http://www.samsungsem.com/kr/support/library/product-catalog/mlcc.jsp; ComponentLink2Description: Digi-Key Listing; ComponentLink2URL: https://www.digikey.com/product-detail/en/samsung-electro-mechanics/CL10B561KC8WPNC/1276-6657-2-ND/5961141; TemperatureCoefficient: X7R; Voltage: 100V; Price: 0; Device Package: 0603 (1608 Metric)
footprint CAP 0603/1608
pins: 1, 2

## CL10B562JB8NNNC
designator C?, comment 5600pF
CAP CER 5600PF 50V X7R 0603; Part Number: CL10B562JB8NNNC; Manufacturer: Samsung Electro-Mechanics America, Inc.; TemperatureRange: -55C ~ 125C; Tolerance: 5%; Value: 5600pF; PartId: 5537; Supplier 1: Digi-Key; Supplier Part Number 1: 1276-2090-2-ND; ComponentLink1Description: Datasheet; ComponentLink1URL: http://www.samsungsem.com/kr/support/product-search/mlcc/CL10B562JB8NNNC.jsp; ComponentLink2Description: Digi-Key listing; ComponentLink2URL: http://digikey.com/product-detail/en/CL10B562JB8NNNC/1276-2090-2-ND/3887748; TemperatureCoefficient: X7R; Voltage: 50V; Price: 0.0243; Type: -; Device Package: 0603 (1608 Metric)
footprint CAP 0603/1608
pins: 1, 2

## CL10B562KB8NNNC
designator C?, comment 5600pF
CAP CER 5600PF 50V X7R 0603; Part Number: CL10B562KB8NNNC; Manufacturer: Samsung Electro-Mechanics America, Inc.; TemperatureRange: -55C ~ 125C; Tolerance: 10%; Value: 5600pF; PartId: 5353; Supplier 1: Digi-Key; Supplier Part Number 1: 1276-2091-2-ND; ComponentLink1Description: Datasheet; ComponentLink1URL: http://www.samsungsem.com/kr/support/product-search/mlcc/CL10B562KB8NNNC.jsp; ComponentLink2Description: Digi-Key listing; ComponentLink2URL: http://digikey.com/product-detail/en/CL10B562KB8NNNC/1276-2091-2-ND/3887749; TemperatureCoefficient: X7R; Voltage: 50V; Price: 0.0097; Type: -; Device Package: 0603 (1608 Metric)
footprint CAP 0603/1608
pins: 1, 2

## CL10B563KA8NNNC
designator C?, comment 0.056uF
CAP CER 0.056UF 25V X7R 0603; Part Number: CL10B563KA8NNNC; Manufacturer: Samsung Electro-Mechanics America, Inc.; TemperatureRange: -55C ~ 125C; Tolerance: 10%; Value: 0.056uF; PartId: 5533; Supplier 1: Digi-Key; Supplier Part Number 1: 1276-2094-2-ND; ComponentLink1Description: Datasheet; ComponentLink1URL: http://www.samsungsem.com/kr/support/product-search/mlcc/CL10B563KA8NNNC.jsp; ComponentLink2Description: Digi-Key listing; ComponentLink2URL: http://digikey.com/product-detail/en/CL10B563KA8NNNC/1276-2094-2-ND/3887752; TemperatureCoefficient: X7R; Voltage: 25V; Price: 0.0239; Type: -; Device Package: 0603 (1608 Metric)
footprint CAP 0603/1608
pins: 1, 2

## CL10B563KB8NNNC
designator C?, comment 0.056uF
CAP CER 0.056UF 50V X7R 0603; Part Number: CL10B563KB8NNNC; Manufacturer: Samsung Electro-Mechanics America, Inc.; TemperatureRange: -55C ~ 125C; Tolerance: 10%; Value: 0.056uF; PartId: 5534; Supplier 1: Digi-Key; Supplier Part Number 1: 1276-2096-2-ND; ComponentLink1Description: Datasheet; ComponentLink1URL: http://www.samsungsem.com/kr/support/product-search/mlcc/CL10B563KB8NNNC.jsp; ComponentLink2Description: Digi-Key listing; ComponentLink2URL: http://digikey.com/product-detail/en/CL10B563KB8NNNC/1276-2096-2-ND/3887754; TemperatureCoefficient: X7R; Voltage: 50V; Price: 0.0239; Type: -; Device Package: 0603 (1608 Metric)
footprint CAP 0603/1608
pins: 1, 2

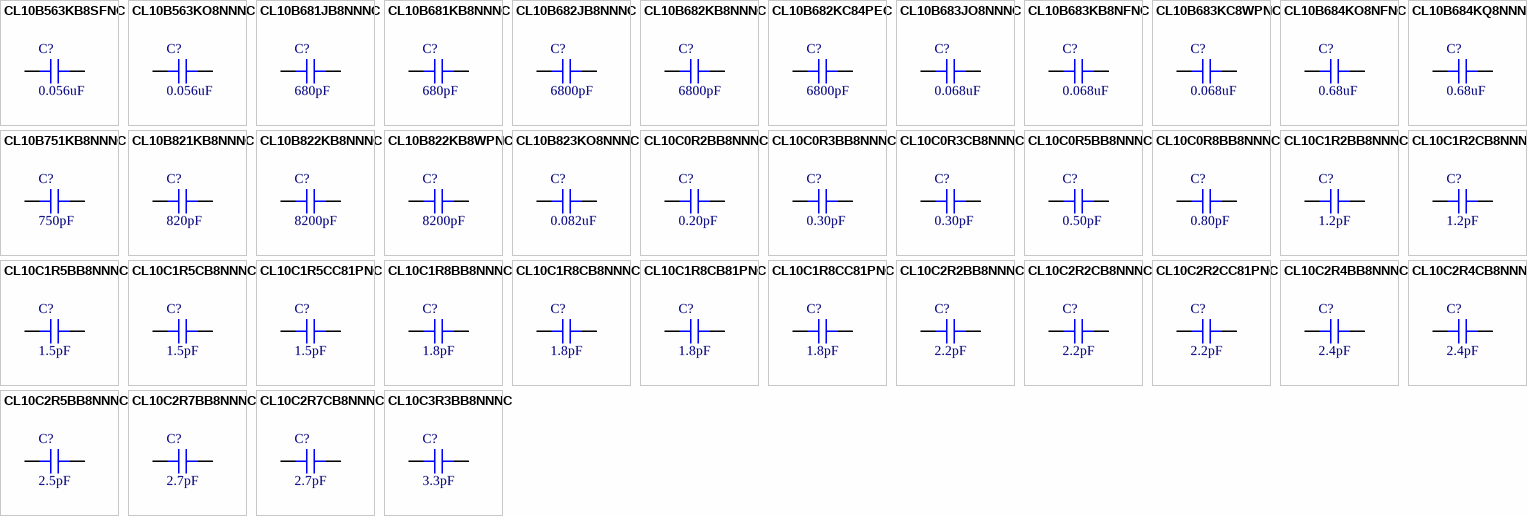
[diagram p11: symbols CL10B563KB8SFNC to CL10C3R3BB8NNNC]

## CL10B563KB8SFNC
designator C?, comment 0.056uF
CAP CER 0.056UF 50V X7R 0603; Part Number: CL10B563KB8SFNC; Manufacturer: Samsung Electro-Mechanics America, Inc.; TemperatureRange: -55C ~ 125C; Tolerance: 10%; Value: 0.056uF; PartId: 13452; Supplier 1: Digi-Key; Supplier Part Number 1: 1276-2097-2-ND; ComponentLink1Description: Datasheet; ComponentLink1URL: http://www.samsungsem.com/kr/support/product-search/mlcc/CL10B563KB8SFNC.jsp; ComponentLink2Description: Digi-Key Listing; ComponentLink2URL: https://www.digikey.com/product-detail/en/samsung-electro-mechanics-america-inc/CL10B563KB8SFNC/1276-2097-2-ND/3887755; TemperatureCoefficient: X7R; Voltage: 50V; Price: 0.0225; Device Package: 0603 (1608 Metric)
footprint CAP 0603/1608
pins: 1, 2

## CL10B563KO8NNNC
designator C?, comment 0.056uF
CAP CER 0.056UF 16V X7R 0603; Part Number: CL10B563KO8NNNC; Manufacturer: Samsung Electro-Mechanics America, Inc.; TemperatureRange: -55C ~ 125C; Tolerance: 10%; Value: 0.056uF; PartId: 5535; Supplier 1: Digi-Key; Supplier Part Number 1: 1276-2098-2-ND; ComponentLink1Description: Datasheet; ComponentLink1URL: http://www.samsungsem.com/kr/support/product-search/mlcc/CL10B563KO8NNNC.jsp; ComponentLink2Description: Digi-Key listing; ComponentLink2URL: http://digikey.com/product-detail/en/CL10B563KO8NNNC/1276-2098-2-ND/3887756; TemperatureCoefficient: X7R; Voltage: 16V; Price: 0.0239; Type: -; Device Package: 0603 (1608 Metric)
footprint CAP 0603/1608
pins: 1, 2

## CL10B681JB8NNNC
designator C?, comment 680pF
CAP CER 680PF 50V X7R 0603; Part Number: CL10B681JB8NNNC; Manufacturer: Samsung Electro-Mechanics America, Inc.; TemperatureRange: -55C ~ 125C; Tolerance: 5%; Value: 680pF; PartId: 5449; Supplier 1: Digi-Key; Supplier Part Number 1: 1276-1279-2-ND; ComponentLink1Description: Datasheet; ComponentLink1URL: http://www.samsungsem.com/kr/support/product-search/mlcc/CL10B681JB8NNNC.jsp; ComponentLink2Description: Digi-Key listing; ComponentLink2URL: http://digikey.com/product-detail/en/CL10B681JB8NNNC/1276-1279-2-ND/3886937; TemperatureCoefficient: X7R; Voltage: 50V; Price: 0.0153; Type: -; Device Package: 0603 (1608 Metric)
footprint CAP 0603/1608
pins: 1, 2

## CL10B681KB8NNNC
designator C?, comment 680pF
CAP CER 680PF 50V X7R 0603; Part Number: CL10B681KB8NNNC; Manufacturer: Samsung Electro-Mechanics America, Inc.; TemperatureRange: -55C ~ 125C; Tolerance: 10%; Value: 680pF; PartId: 5326; Supplier 1: Digi-Key; Supplier Part Number 1: 1276-1080-2-ND; ComponentLink1Description: Datasheet; ComponentLink1URL: http://www.samsungsem.com/kr/support/product-search/mlcc/CL10B681KB8NNNC.jsp; ComponentLink2Description: Digi-Key listing; ComponentLink2URL: http://digikey.com/product-detail/en/CL10B681KB8NNNC/1276-1080-2-ND/3886738; TemperatureCoefficient: X7R; Voltage: 50V; Price: 0.0086; Type: -; Device Package: 0603 (1608 Metric)
footprint CAP 0603/1608
pins: 1, 2

## CL10B682JB8NNNC
designator C?, comment 6800pF
CAP CER 6800PF 50V X7R 0603; Part Number: CL10B682JB8NNNC; Manufacturer: Samsung Electro-Mechanics America, Inc.; TemperatureRange: -55C ~ 125C; Tolerance: 5%; Value: 6800pF; PartId: 5415; Supplier 1: Digi-Key; Supplier Part Number 1: 1276-2099-2-ND; ComponentLink1Description: Datasheet; ComponentLink1URL: http://www.samsungsem.com/kr/support/product-search/mlcc/CL10B682JB8NNNC.jsp; ComponentLink2Description: Digi-Key listing; ComponentLink2URL: http://digikey.com/product-detail/en/CL10B682JB8NNNC/1276-2099-2-ND/3887757; TemperatureCoefficient: X7R; Voltage: 50V; Price: 0.013; Type: -; Device Package: 0603 (1608 Metric)
footprint CAP 0603/1608
pins: 1, 2

## CL10B682KB8NNNC
designator C?, comment 6800pF
CAP CER 6800PF 50V X7R 0603; Part Number: CL10B682KB8NNNC; Manufacturer: Samsung Electro-Mechanics America, Inc.; TemperatureRange: -55C ~ 125C; Tolerance: 10%; Value: 6800pF; PartId: 5344; Supplier 1: Digi-Key; Supplier Part Number 1: 1276-1185-2-ND; ComponentLink1Description: Datasheet; ComponentLink1URL: http://www.samsungsem.com/kr/support/product-search/mlcc/CL10B682KB8NNNC.jsp; ComponentLink2Description: Digi-Key listing; ComponentLink2URL: http://digikey.com/product-detail/en/CL10B682KB8NNNC/1276-1185-2-ND/3886843; TemperatureCoefficient: X7R; Voltage: 50V; Price: 0.0097; Type: -; Device Package: 0603 (1608 Metric)
footprint CAP 0603/1608
pins: 1, 2

## CL10B682KC84PEC
designator C?, comment 6800pF
CAP CER 6800PF 100V X7R 0603; Part Number: CL10B682KC84PEC; Manufacturer: Samsung Electro-Mechanics; TemperatureRange: -55C ~ 125C; Tolerance: 10%; Value: 6800pF; PartId: 30453; Supplier 1: Digi-Key; Supplier Part Number 1: 1276-6548-2-ND; ComponentLink1Description: Datasheet; ComponentLink1URL: http://www.samsungsem.com/kr/support/library/product-catalog/mlcc.jsp; ComponentLink2Description: Digi-Key Listing; ComponentLink2URL: https://www.digikey.com/product-detail/en/samsung-electro-mechanics/CL10B682KC84PEC/1276-6548-2-ND/5961032; TemperatureCoefficient: X7R; Voltage: 100V; Price: 0; Device Package: 0603 (1608 Metric)
footprint CAP 0603/1608
pins: 1, 2

## CL10B683JO8NNNC
designator C?, comment 0.068uF
CAP CER 0.068UF 16V X7R 0603; Part Number: CL10B683JO8NNNC; Manufacturer: Samsung Electro-Mechanics America, Inc.; TemperatureRange: -55C ~ 125C; Tolerance: 5%; Value: 0.068uF; PartId: 5599; Supplier 1: Digi-Key; Supplier Part Number 1: 1276-2104-2-ND; ComponentLink1Description: Datasheet; ComponentLink1URL: http://media.digikey.com/pdf/Data%20Sheets/Samsung%20PDFs/CL10B683JO8NNNC_spec.pdf; ComponentLink2Description: Digi-Key listing; ComponentLink2URL: http://digikey.com/product-detail/en/CL10B683JO8NNNC/1276-2104-2-ND/3887762; TemperatureCoefficient: X7R; Voltage: 16V; Price: 0.0324; Type: -; Device Package: 0603 (1608 Metric)
footprint CAP 0603/1608
pins: 1, 2

## CL10B683KB8NFNC
designator C?, comment 0.068uF
CAP CER 0.068UF 50V X7R 0603; Part Number: CL10B683KB8NFNC; Manufacturer: Samsung Electro-Mechanics; TemperatureRange: -55C ~ 125C; Tolerance: 10%; Value: 0.068uF; PartId: 30368; Supplier 1: Digi-Key; Supplier Part Number 1: 1276-2108-2-ND; ComponentLink1Description: Datasheet; ComponentLink1URL: http://www.samsungsem.com/kr/support/product-search/mlcc/CL10B683KB8NFNC.jsp; ComponentLink2Description: Digi-Key Listing; ComponentLink2URL: https://www.digikey.com/product-detail/en/samsung-electro-mechanics/CL10B683KB8NFNC/1276-2108-2-ND/3887766; TemperatureCoefficient: X7R; Voltage: 50V; Price: 0; Device Package: 0603 (1608 Metric)
footprint CAP 0603/1608
pins: 1, 2

## CL10B683KC8WPNC
designator C?, comment 0.068uF
CAP CER 0.068UF 100V X7R 0603; Part Number: CL10B683KC8WPNC; Manufacturer: Samsung Electro-Mechanics; TemperatureRange: -55C ~ 125C; Tolerance: 10%; Value: 0.068uF; PartId: 30727; Supplier 1: Digi-Key; Supplier Part Number 1: 1276-6682-2-ND; ComponentLink1Description: Datasheet; ComponentLink1URL: http://www.samsungsem.com/kr/support/product-search/mlcc/CL10B683KC8WPNC.jsp; ComponentLink2Description: Digi-Key Listing; ComponentLink2URL: https://www.digikey.com/product-detail/en/samsung-electro-mechanics/CL10B683KC8WPNC/1276-6682-2-ND/5961166; TemperatureCoefficient: X7R; Voltage: 100V; Price: 0; Device Package: 0603 (1608 Metric)
footprint CAP 0603/1608
pins: 1, 2

## CL10B684KO8NFNC
designator C?, comment 0.68uF
CAP CER 0.68UF 16V X7R 0603; Part Number: CL10B684KO8NFNC; Manufacturer: Samsung Electro-Mechanics; TemperatureRange: -55C ~ 125C; Tolerance: 10%; Value: 0.68uF; PartId: 30751; Supplier 1: Digi-Key; Supplier Part Number 1: 1276-2114-2-ND; ComponentLink1Description: Datasheet; ComponentLink1URL: http://www.samsungsem.com/kr/support/product-search/mlcc/CL10B684KO8NFNC.jsp; ComponentLink2Description: Digi-Key Listing; ComponentLink2URL: https://www.digikey.com/product-detail/en/samsung-electro-mechanics/CL10B684KO8NFNC/1276-2114-2-ND/3887772; TemperatureCoefficient: X7R; Voltage: 16V; Price: 0; Device Package: 0603 (1608 Metric)
footprint CAP 0603/1608
pins: 1, 2

## CL10B684KQ8NNNC
designator C?, comment 0.68uF
CAP CER 0.68UF 6.3V X7R 0603; Part Number: CL10B684KQ8NNNC; Manufacturer: Samsung Electro-Mechanics America, Inc.; TemperatureRange: -55C ~ 125C; Tolerance: 10%; Value: 0.68uF; PartId: 5588; Supplier 1: Digi-Key; Supplier Part Number 1: 1276-2115-2-ND; ComponentLink1Description: Datasheet; ComponentLink1URL: http://www.samsungsem.com/kr/support/product-search/mlcc/CL10B684KQ8NNNC.jsp; ComponentLink2Description: Digi-Key listing; ComponentLink2URL: http://digikey.com/product-detail/en/CL10B684KQ8NNNC/1276-2115-2-ND/3887773; TemperatureCoefficient: X7R; Voltage: 6.3V; Price: 0.0308; Type: -; Device Package: 0603 (1608 Metric)
footprint CAP 0603/1608
pins: 1, 2

## CL10B751KB8NNNC
designator C?, comment 750pF
CAP CER 750PF 50V X7R 0603; Part Number: CL10B751KB8NNNC; Manufacturer: Samsung Electro-Mechanics America, Inc.; TemperatureRange: -55C ~ 125C; Tolerance: 10%; Value: 750pF; PartId: 5246; Supplier 1: Digi-Key; Supplier Part Number 1: 1276-2116-2-ND; ComponentLink1Description: Datasheet; ComponentLink1URL: http://www.samsungsem.com/kr/support/product-search/mlcc/CL10B751KB8NNNC.jsp; ComponentLink2Description: Digi-Key listing; ComponentLink2URL: http://digikey.com/product-detail/en/CL10B751KB8NNNC/1276-2116-2-ND/3887774; TemperatureCoefficient: X7R; Voltage: 50V; Price: 0.0032; Type: -; Device Package: 0603 (1608 Metric)
footprint CAP 0603/1608
pins: 1, 2

## CL10B821KB8NNNC
designator C?, comment 820pF
CAP CER 820PF 50V X7R 0603; Part Number: CL10B821KB8NNNC; Manufacturer: Samsung Electro-Mechanics America, Inc.; TemperatureRange: -55C ~ 125C; Tolerance: 10%; Value: 820pF; PartId: 5349; Supplier 1: Digi-Key; Supplier Part Number 1: 1276-2117-2-ND; ComponentLink1Description: Datasheet; ComponentLink1URL: http://www.samsungsem.com/kr/support/product-search/mlcc/CL10B821KB8NNNC.jsp; ComponentLink2Description: Digi-Key listing; ComponentLink2URL: http://digikey.com/product-detail/en/CL10B821KB8NNNC/1276-2117-2-ND/3887775; TemperatureCoefficient: X7R; Voltage: 50V; Price: 0.0097; Type: -; Device Package: 0603 (1608 Metric)
footprint CAP 0603/1608
pins: 1, 2

## CL10B822KB8NNNC
designator C?, comment 8200pF
CAP CER 8200PF 50V X7R 0603; Part Number: CL10B822KB8NNNC; Manufacturer: Samsung Electro-Mechanics America, Inc.; TemperatureRange: -55C ~ 125C; Tolerance: 10%; Value: 8200pF; PartId: 5347; Supplier 1: Digi-Key; Supplier Part Number 1: 1276-2119-2-ND; ComponentLink1Description: Datasheet; ComponentLink1URL: http://www.samsungsem.com/kr/support/product-search/mlcc/CL10B822KB8NNNC.jsp; ComponentLink2Description: Digi-Key listing; ComponentLink2URL: http://digikey.com/product-detail/en/CL10B822KB8NNNC/1276-2119-2-ND/3887777; TemperatureCoefficient: X7R; Voltage: 50V; Price: 0.0097; Type: -; Device Package: 0603 (1608 Metric)
footprint CAP 0603/1608
pins: 1, 2

## CL10B822KB8WPNC
designator C?, comment 8200pF
CAP CER 8200PF 50V X7R 0603; Part Number: CL10B822KB8WPNC; Manufacturer: Samsung Electro-Mechanics; TemperatureRange: -55C ~ 125C; Tolerance: 10%; Value: 8200pF; PartId: 30301; Supplier 1: Digi-Key; Supplier Part Number 1: 1276-6533-2-ND; ComponentLink1Description: Datasheet; ComponentLink1URL: http://www.samsungsem.com/kr/support/product-search/mlcc/CL10B822KB8WPNC.jsp; ComponentLink2Description: Digi-Key Listing; ComponentLink2URL: https://www.digikey.com/product-detail/en/samsung-electro-mechanics/CL10B822KB8WPNC/1276-6533-2-ND/5961017; TemperatureCoefficient: X7R; Voltage: 50V; Price: 0; Device Package: 0603 (1608 Metric)
footprint CAP 0603/1608
pins: 1, 2

## CL10B823KO8NNNC
designator C?, comment 0.082uF
CAP CER 0.082UF 16V X7R 0603; Part Number: CL10B823KO8NNNC; Manufacturer: Samsung Electro-Mechanics America, Inc.; TemperatureRange: -55C ~ 125C; Tolerance: 10%; Value: 0.082uF; PartId: 5545; Supplier 1: Digi-Key; Supplier Part Number 1: 1276-2123-2-ND; ComponentLink1Description: Datasheet; ComponentLink1URL: http://www.samsungsem.com/kr/support/product-search/mlcc/CL10B823KO8NNNC.jsp; ComponentLink2Description: Digi-Key listing; ComponentLink2URL: http://digikey.com/product-detail/en/CL10B823KO8NNNC/1276-2123-2-ND/3887781; TemperatureCoefficient: X7R; Voltage: 16V; Price: 0.0247; Type: -; Device Package: 0603 (1608 Metric)
footprint CAP 0603/1608
pins: 1, 2

## CL10C0R2BB8NNNC
designator C?, comment 0.20pF
CAP CER 0.2PF 50V NP0 0603; Part Number: CL10C0R2BB8NNNC; Manufacturer: Samsung Electro-Mechanics America, Inc.; TemperatureRange: -55C ~ 125C; TemperatureCoefficient: C0G, NP0; Tolerance: 0.1pF; Value: 0.20pF; PartId: 5249; Supplier 1: Digi-Key; Supplier Part Number 1: 1276-2144-2-ND; ComponentLink1Description: Datasheet; ComponentLink1URL: http://www.samsungsem.com/kr/support/product-search/mlcc/CL10C0R2BB8NNNC.jsp; ComponentLink2Description: Digi-Key listing; ComponentLink2URL: http://digikey.com/product-detail/en/CL10C0R2BB8NNNC/1276-2144-2-ND/3887802; Voltage: 50V; Price: 0.0034; Type: -; Device Package: 0603 (1608 Metric)
footprint CAP 0603/1608
pins: 1, 2

## CL10C0R3BB8NNNC
designator C?, comment 0.30pF
CAP CER 0.30PF 50V NP0 0603; Part Number: CL10C0R3BB8NNNC; Manufacturer: Samsung Electro-Mechanics America, Inc.; TemperatureRange: -55C ~ 125C; TemperatureCoefficient: C0G, NP0; Tolerance: 0.1pF; Value: 0.30pF; PartId: 5247; Supplier 1: Digi-Key; Supplier Part Number 1: 1276-2145-2-ND; ComponentLink1Description: Datasheet; ComponentLink1URL: http://www.samsungsem.com/kr/support/product-search/mlcc/CL10C0R3BB8NNNC.jsp; ComponentLink2Description: Digi-Key listing; ComponentLink2URL: http://digikey.com/product-detail/en/CL10C0R3BB8NNNC/1276-2145-2-ND/3887803; Voltage: 50V; Price: 0.0034; Type: -; Device Package: 0603 (1608 Metric)
footprint CAP 0603/1608
pins: 1, 2

## CL10C0R3CB8NNNC
designator C?, comment 0.30pF
CAP CER 0.30PF 50V NP0 0603; Part Number: CL10C0R3CB8NNNC; Manufacturer: Samsung Electro-Mechanics America, Inc.; TemperatureRange: -55C ~ 125C; TemperatureCoefficient: C0G, NP0; Tolerance: 0.25pF; Value: 0.30pF; PartId: 5279; Supplier 1: Digi-Key; Supplier Part Number 1: 1276-2146-2-ND; ComponentLink1Description: Datasheet; ComponentLink1URL: http://www.samsungsem.com/kr/support/product-search/mlcc/CL10C0R3CB8NNNC.jsp; ComponentLink2Description: Digi-Key listing; ComponentLink2URL: http://digikey.com/product-detail/en/CL10C0R3CB8NNNC/1276-2146-2-ND/3887804; Voltage: 50V; Price: 0.0064; Type: -; Device Package: 0603 (1608 Metric)
footprint CAP 0603/1608
pins: 1, 2

## CL10C0R5BB8NNNC
designator C?, comment 0.50pF
CAP CER 0.50PF 50V NP0 0603; Part Number: CL10C0R5BB8NNNC; Manufacturer: Samsung Electro-Mechanics America, Inc.; TemperatureRange: -55C ~ 125C; TemperatureCoefficient: C0G, NP0; Tolerance: 0.1pF; Value: 0.50pF; PartId: 5406; Supplier 1: Digi-Key; Supplier Part Number 1: 1276-1818-2-ND; ComponentLink1Description: Datasheet; ComponentLink1URL: http://www.samsungsem.com/kr/support/product-search/mlcc/CL10C0R5BB8NNNC.jsp; ComponentLink2Description: Digi-Key listing; ComponentLink2URL: http://digikey.com/product-detail/en/CL10C0R5BB8NNNC/1276-1818-2-ND/3887476; Voltage: 50V; Price: 0.0117; Type: -; Device Package: 0603 (1608 Metric)
footprint CAP 0603/1608
pins: 1, 2

## CL10C0R8BB8NNNC
designator C?, comment 0.80pF
CAP CER 0.8PF 50V NP0 0603; Part Number: CL10C0R8BB8NNNC; Manufacturer: Samsung Electro-Mechanics America, Inc.; TemperatureRange: -55C ~ 125C; TemperatureCoefficient: C0G, NP0; Tolerance: 0.1pF; Value: 0.80pF; PartId: 13128; Supplier 1: Digi-Key; Supplier Part Number 1: 1276-2148-2-ND; ComponentLink1Description: Datasheet; ComponentLink1URL: http://www.samsungsem.com/kr/support/product-search/mlcc/CL10C0R8BB8NNNC.jsp; ComponentLink2Description: Digi-Key Listing; ComponentLink2URL: https://www.digikey.com/product-detail/en/samsung-electro-mechanics-america-inc/CL10C0R8BB8NNNC/1276-2148-2-ND/3887806; Voltage: 50V; Price: 0.0029; Device Package: 0603 (1608 Metric)
footprint CAP 0603/1608
pins: 1, 2